# Altium footprint library Surface Mount.PcbLib: 24 footprints (part 2 of 2)
Each footprint in its own frame and in the unit in brackets; x right, y up, seen from the top. Pads: shape width x height; smd on the part's side, far side on the other; paste and mask are expansions set on the pad; w line width, h text height; cw(c..) or ccw(c..) is an arc to the next point about the centre after c.
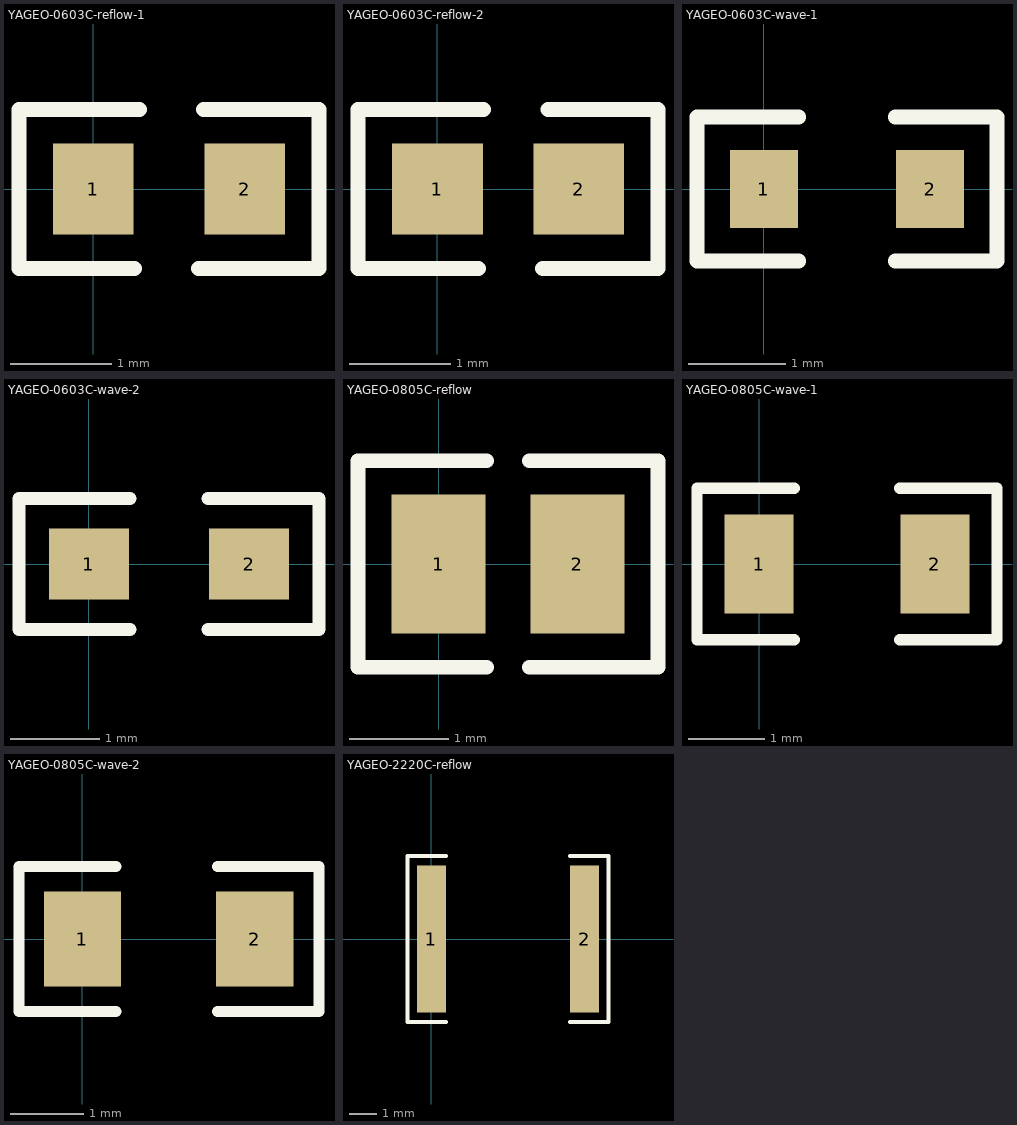
[diagram p1: the footprints below, top view; thin cyan lines are the x and y axes]

## YAGEO-0603C-reflow-1 [mm] "YAGEO(国巨)数据手册中推荐的0603贴片电容的回流焊封装.For 0603 length 1.6 +/-0.1mm products."
pads (2):
  rect 0.8x0.9 smd: 1(0,0) 2(1.5,0)
Top Overlay:
  lines w0.15: 0.406,-0.787 -0.737,-0.787 -0.737,0.787 0.457,0.787 ; 1.043,-0.787 2.237,-0.787 2.237,0.787 1.094,0.787
3D body "Capacitors 0603.STEP": height 0.83, standoff 0.03, extent -0.05,-0.4 1.55,0.4

## YAGEO-0603C-reflow-2 [mm] "YAGEO(国巨)数据手册中推荐的0603贴片电容的回流焊封装.For 0603 length 1.6 +/-0.15 and 1.6 +/-0.2 mm products"
pads (2):
  rect 0.9x0.9 smd: 1(0,0) 2(1.4,0)
Top Overlay:
  lines w0.15: 0.406,-0.787 -0.787,-0.787 -0.787,0.787 0.457,0.787 ; 1.043,-0.787 2.184,-0.787 2.184,0.787 1.094,0.787
3D body "Capacitors 0603.STEP": height 0.83, standoff 0.03, extent -0.1,-0.4 1.5,0.4

## YAGEO-0603C-wave-1 [mm] "YAGEO(国巨)数据手册中推荐的0603贴片电容的波峰焊封装.For 0603 length 1.6 +/-0.1mm products."
pads (2):
  rect 0.7x0.8 smd: 1(0,0) 2(1.7,0)
Top Overlay:
  lines w0.15: 0.356,-0.737 -0.686,-0.737 -0.686,0.737 0.356,0.737 ; 1.344,-0.737 2.386,-0.737 2.386,0.737 1.344,0.737
3D body "Capacitors 0603.STEP": height 0.83, standoff 0.03, extent 0.05,-0.4 1.65,0.4

## YAGEO-0603C-wave-2 [mm] "YAGEO(国巨)数据手册中推荐的0603贴片电容的波峰焊封装.For 0603 length 1.6 +/-0.15 and 1.6 +/-0.2 mm products"
pads (2):
  rect 0.9x0.8 smd: 1(0,0) 2(1.8,0)
Top Overlay:
  lines w0.15: 0.457,-0.737 -0.787,-0.737 -0.787,0.737 0.457,0.737 ; 1.343,-0.737 2.587,-0.737 2.587,0.737 1.343,0.737
3D body "Capacitors 0603.STEP": height 0.83, standoff 0.03, extent 0.1,-0.4 1.7,0.4

## YAGEO-0805C-reflow [mm] "YAGEO(国巨)数据手册中推荐的0805贴片电容的回流焊封装"
pads (2):
  rect 0.95x1.4 smd: 1(0,0) 2(1.4,0)
Top Overlay:
  lines w0.15: 0.483,-1.041 -0.813,-1.041 -0.813,1.041 0.483,1.041 ; 0.917,-1.041 2.213,-1.041 2.213,1.041 0.917,1.041
3D body "Capacitors 0805.STEP": height 0.67, standoff 0.07, extent -0.3,-0.625 1.7,0.625

## YAGEO-0805C-wave-1 [mm] "YAGEO(国巨)数据手册中推荐的0805贴片电容的波峰焊封装。For 0805 length 2.0+/-0.1mm products."
pads (2):
  rect 0.9x1.3 smd: 1(0,0) 2(2.3,0)
Top Overlay:
  lines w0.15: 0.457,-0.991 -0.813,-0.991 -0.813,0.991 0.457,0.991 ; 1.843,-0.991 3.113,-0.991 3.113,0.991 1.843,0.991
3D body "Capacitors 0805.STEP": height 0.67, standoff 0.07, extent 0.15,-0.625 2.15,0.625

## YAGEO-0805C-wave-2 [mm] "YAGEO(国巨)数据手册中推荐的0805贴片电容的波峰焊封装。For 0805 length 2.0+/-0.2mm products."
pads (2):
  rect 1.05x1.3 smd: 1(0,0) 2(2.35,0)
Top Overlay:
  lines w0.15: 0.457,-0.991 -0.864,-0.991 -0.864,0.991 0.457,0.991 ; 1.843,-0.991 3.226,-0.991 3.226,0.991 1.843,0.991
3D body "Capacitors 0805.STEP": height 0.67, standoff 0.07, extent 0.175,-0.625 2.175,0.625

## YAGEO-2220C-reflow [mm] "YAGEO(国巨)数据手册中推荐的2220贴片电容的回流焊封装"
pads (2):
  rect 1.05x5.3 smd: 1(0,0) 2(5.55,0)
Top Overlay:
  lines w0.15: 0.533,-2.997 -0.864,-2.997 -0.864,2.997 0.533,2.997 ; 5.017,-2.997 6.414,-2.997 6.414,2.997 5.017,2.997
3D body "Capacitors 2220.STEP": height 1.06, standoff 0.06, extent -0.025,-2.5 5.575,2.5